# EAGLE library part ATMEGA161 (library atmel)
8-bit AVR Microcontroller 16 Kbytes FLASH 512 bytes EEPROM 1 Kbytes SRAM dual UART hardware multiplier
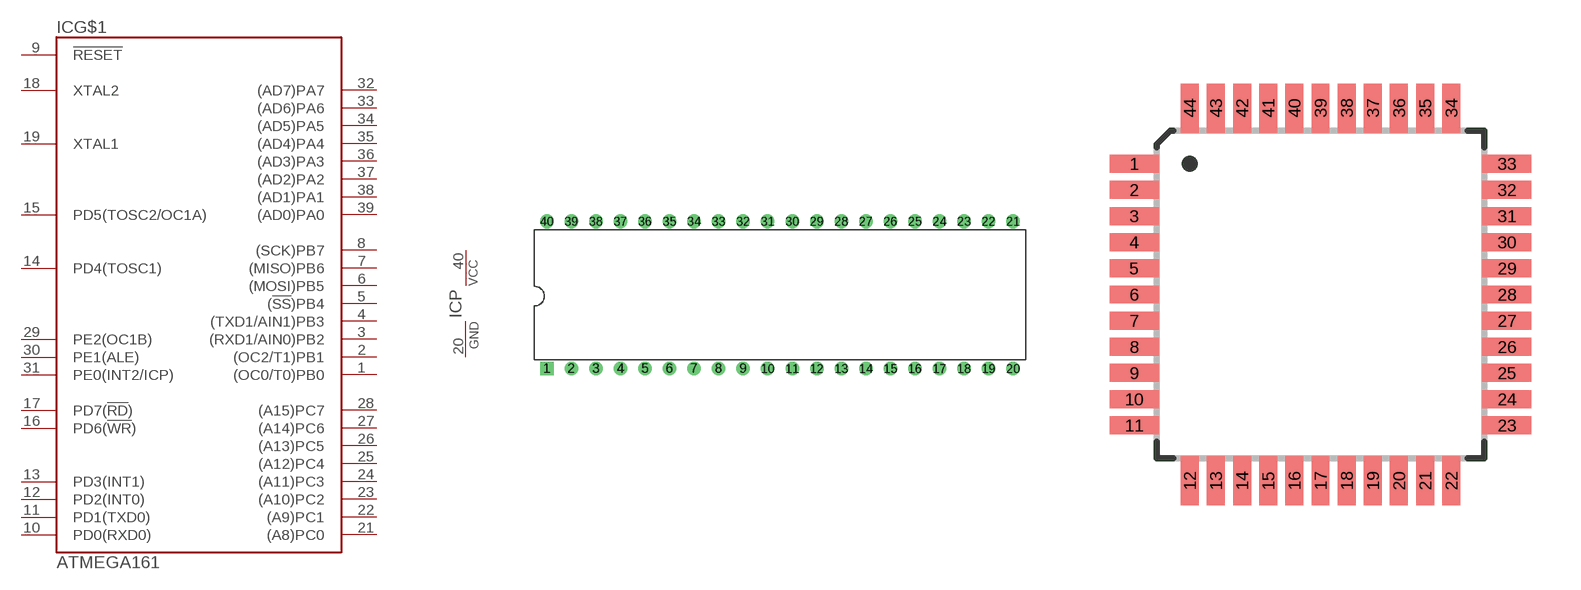
[diagram p41: symbol with the pads of DIL40; footprints DIL40, QFP44_10X10_0.80]

Designator prefix IC; gates G$1=MEGA161 P=PWR

## ATMEGA161-8PC, ATMEGA161L-4PC  [DIL40]
1  G$1:(OC0/T0)PB0
2  G$1:(OC2/T1)PB1
3  G$1:(RXD1/AIN0)PB2
4  G$1:(TXD1/AIN1)PB3
5  G$1:(!SS!)PB4
6  G$1:(MOSI)PB5
7  G$1:(MISO)PB6
8  G$1:(SCK)PB7
9  G$1:!RESET  in
10  G$1:PD0(RXD0)
11  G$1:PD1(TXD0)
12  G$1:PD2(INT0)
13  G$1:PD3(INT1)
14  G$1:PD4(TOSC1)
15  G$1:PD5(TOSC2/OC1A)
16  G$1:PD6(!WR!)
17  G$1:PD7(!RD!)
18  G$1:XTAL2
19  G$1:XTAL1
20  P:GND  pwr
21  G$1:(A8)PC0
22  G$1:(A9)PC1
23  G$1:(A10)PC2
24  G$1:(A11)PC3
25  G$1:(A12)PC4
26  G$1:(A13)PC5
27  G$1:(A14)PC6
28  G$1:(A15)PC7
29  G$1:PE2(OC1B)
30  G$1:PE1(ALE)
31  G$1:PE0(INT2/ICP)
32  G$1:(AD7)PA7
33  G$1:(AD6)PA6
34  G$1:(AD5)PA5
35  G$1:(AD4)PA4
36  G$1:(AD3)PA3
37  G$1:(AD2)PA2
38  G$1:(AD1)PA1
39  G$1:(AD0)PA0
40  P:VCC  pwr

## ATMEGA161-8PI, ATMEGA161L-4PI  [DIL40]
Pads as for DIL40

## ATMEGA161-8AC, ATMEGA161L-4AC  [QFP44_10X10_0.80]
1  G$1:(MOSI)PB5
2  G$1:(MISO)PB6
3  G$1:(SCK)PB7
4  G$1:!RESET  in
5  G$1:PD0(RXD0)
7  G$1:PD1(TXD0)
8  G$1:PD2(INT0)
9  G$1:PD3(INT1)
10  G$1:PD4(TOSC1)
11  G$1:PD5(TOSC2/OC1A)
12  G$1:PD6(!WR!)
13  G$1:PD7(!RD!)
14  G$1:XTAL2
15  G$1:XTAL1
16  P:GND  pwr
18  G$1:(A8)PC0
19  G$1:(A9)PC1
20  G$1:(A10)PC2
21  G$1:(A11)PC3
22  G$1:(A12)PC4
23  G$1:(A13)PC5
24  G$1:(A14)PC6
25  G$1:(A15)PC7
26  G$1:PE2(OC1B)
27  G$1:PE1(ALE)
29  G$1:PE0(INT2/ICP)
30  G$1:(AD7)PA7
31  G$1:(AD6)PA6
32  G$1:(AD5)PA5
33  G$1:(AD4)PA4
34  G$1:(AD3)PA3
35  G$1:(AD2)PA2
36  G$1:(AD1)PA1
37  G$1:(AD0)PA0
38  P:VCC  pwr
40  G$1:(OC0/T0)PB0
41  G$1:(OC2/T1)PB1
42  G$1:(RXD1/AIN0)PB2
43  G$1:(TXD1/AIN1)PB3
44  G$1:(!SS!)PB4

## ATMEGA161-8AI, ATMEGA161L-4AI  [QFP44_10X10_0.80]
Pads as for QFP44_10X10_0.80

## Footprint DIL40 (pad centres in mm)
DIL package, pin row distance 600mil
drill 0.8 pad 1.4 square: 1 -24.13,-7.62
drill 0.8 pad 1.4: 2 -21.59,-7.62; 3 -19.05,-7.62; 4 -16.51,-7.62; 5 -13.97,-7.62; 6 -11.43,-7.62; 7 -8.89,-7.62; 8 -6.35,-7.62; 9 -3.81,-7.62; 10 -1.27,-7.62; 11 1.27,-7.62; 12 3.81,-7.62; 13 6.35,-7.62; 14 8.89,-7.62; 15 11.43,-7.62; 16 13.97,-7.62; 17 16.51,-7.62; 18 19.05,-7.62; 19 21.59,-7.62; 20 24.13,-7.62; 21 24.13,7.62; 22 21.59,7.62; 23 19.05,7.62; 24 16.51,7.62; 25 13.97,7.62; 26 11.43,7.62; 27 8.89,7.62; 28 6.35,7.62; 29 3.81,7.62; 30 1.27,7.62; 31 -1.27,7.62; 32 -3.81,7.62; 33 -6.35,7.62; 34 -8.89,7.62; 35 -11.43,7.62; 36 -13.97,7.62; 37 -16.51,7.62; 38 -19.05,7.62; 39 -21.59,7.62; 40 -24.13,7.62

## Footprint QFP44_10X10_0.80 (pad centres in mm)
Thin Plasic Quad Flat Package, 10mm x 10mm body, 0.80mm lead pitch JEDEC: MS-026 ACB ATMEL Code: 44A
smd 1.5 x 0.55: 1 -5.7,4; 2 -5.7,3.2; 3 -5.7,2.4; 4 -5.7,1.6; 5 -5.7,0.8; 6 -5.7,0; 7 -5.7,-0.8; 8 -5.7,-1.6; 9 -5.7,-2.4; 10 -5.7,-3.2; 11 -5.7,-4; 23 5.7,-4; 24 5.7,-3.2; 25 5.7,-2.4; 26 5.7,-1.6; 27 5.7,-0.8; 28 5.7,0; 29 5.7,0.8; 30 5.7,1.6; 31 5.7,2.4; 32 5.7,3.2; 33 5.7,4
smd 0.55 x 1.5: 12 -4,-5.7; 13 -3.2,-5.7; 14 -2.4,-5.7; 15 -1.6,-5.7; 16 -0.8,-5.7; 17 0,-5.7; 18 0.8,-5.7; 19 1.6,-5.7; 20 2.4,-5.7; 21 3.2,-5.7; 22 4,-5.7; 34 4,5.7; 35 3.2,5.7; 36 2.4,5.7; 37 1.6,5.7; 38 0.8,5.7; 39 0,5.7; 40 -0.8,5.7; 41 -1.6,5.7; 42 -2.4,5.7; 43 -3.2,5.7; 44 -4,5.7